# EAGLE library part CON_53047-06 (library SCADA_CUSTOM_LIBRARY)
CONNECTOR wire to board 1.25 mm (.049 inch) pitch header
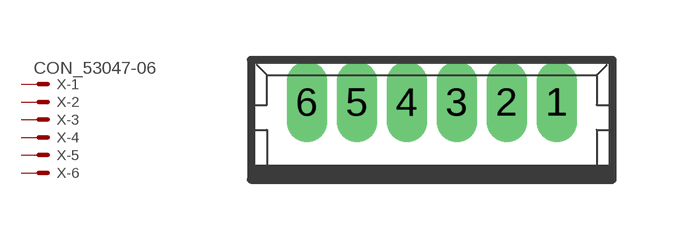
[diagram p0: symbol with the pads of 53047-06; footprint 53047-06]

Designator prefix X; gates -1=MV -2=M -3=M -4=M -5=M -6=M

## CON_53047-06047 (MF: MOLEX; MPN: 53047-0610-C; OC_FARNELL: 9733078; OC_NEWARK: 03M2965)  [53047-06]
1  -1:S  pas
2  -2:S  pas
3  -3:S  pas
4  -4:S  pas
5  -5:S  pas
6  -6:S  pas

## Footprint 53047-06 (pad centres in mm)
1.25mm Pitch PicoBlade™ Wire-to-Board Header, Vertical, with Friction Lock, 6 Circuits Datasheet <http://www.molex.com/pdm_docs/sd/530470610_sd.pdf>
drill 0.5 pad 0.698 long: 1 3.125,0.45; 2 1.875,0.45; 3 0.625,0.45; 4 -0.625,0.45; 5 -1.875,0.45; 6 -3.125,0.45